# EAGLE library part TSW-S-31 (library con-samtec-tsw)
HEADER
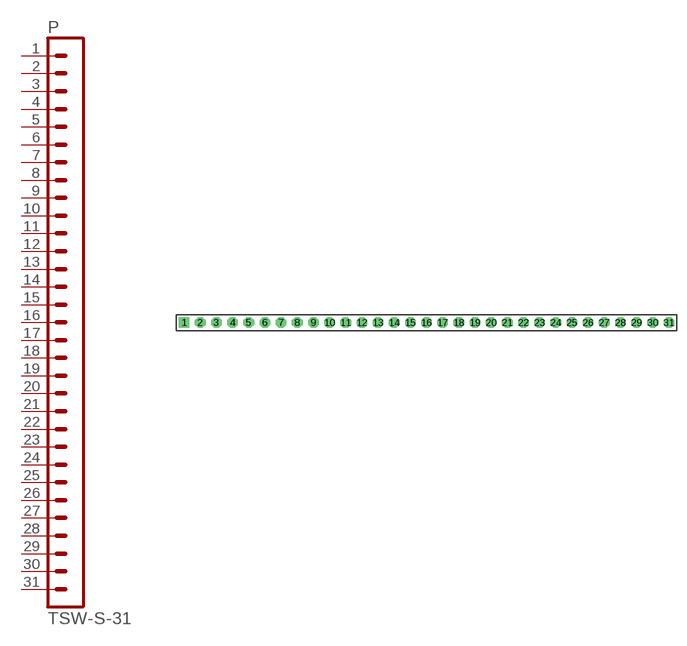
[diagram p25: symbol with the pads of TSW-S-31; footprint TSW-S-31]

Designator prefix P

## TSW-S-31  [TSW-S-31]
1  1  pas
2  2  pas
3  3  pas
4  4  pas
5  5  pas
6  6  pas
7  7  pas
8  8  pas
9  9  pas
10  10  pas
11  11  pas
12  12  pas
13  13  pas
14  14  pas
15  15  pas
16  16  pas
17  17  pas
18  18  pas
19  19  pas
20  20  pas
21  21  pas
22  22  pas
23  23  pas
24  24  pas
25  25  pas
26  26  pas
27  27  pas
28  28  pas
29  29  pas
30  30  pas
31  31  pas

## Footprint TSW-S-31 (pad centres in mm)
HEADER
drill 0.914 pad 1.676 square: 1 -38.1,0
drill 0.914 pad 1.676 octagon: 2 -35.56,0; 3 -33.02,0; 4 -30.48,0; 5 -27.94,0; 6 -25.4,0; 7 -22.86,0; 8 -20.32,0; 9 -17.78,0; 10 -15.24,0; 11 -12.7,0; 12 -10.16,0; 13 -7.62,0; 14 -5.08,0; 15 -2.54,0; 16 0,0; 17 2.54,0; 18 5.08,0; 19 7.62,0; 20 10.16,0; 21 12.7,0; 22 15.24,0; 23 17.78,0; 24 20.32,0; 25 22.86,0; 26 25.4,0; 27 27.94,0; 28 30.48,0; 29 33.02,0; 30 35.56,0; 31 38.1,0